# Altium footprint library SOT23-5-MIC5504.PcbLib: 1 footprints
Each footprint in its own frame and in the unit in brackets; x right, y up, seen from the top. Pads: shape width x height; smd on the part's side, far side on the other; paste and mask are expansions set on the pad; w line width, h text height; cw(c..) or ccw(c..) is an arc to the next point about the centre after c.
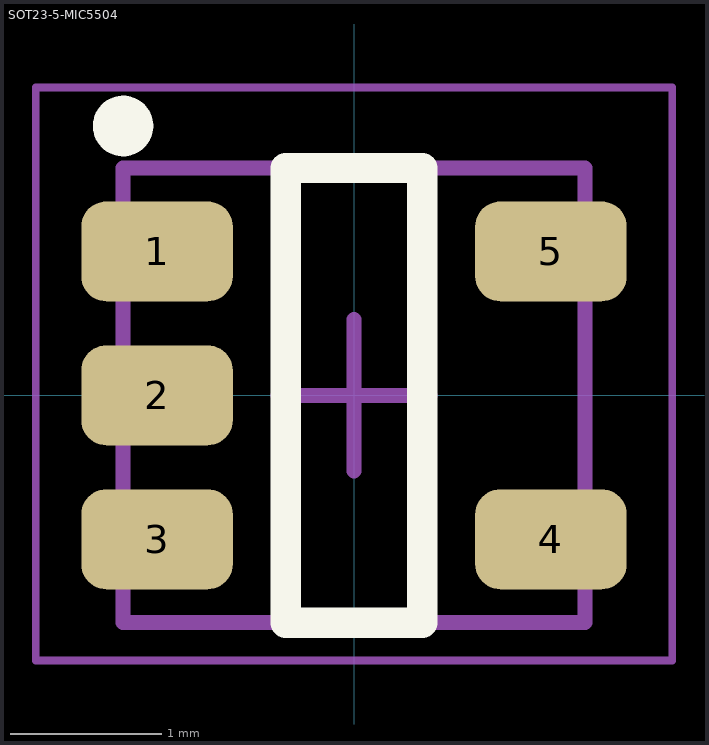
[diagram p0: the footprint, top view; thin cyan lines are the x and y axes]

## SOT23-5-MIC5504 [mm] "SOT23, 5-Leads, Body 2,90x2,80mm, Pitch 0,95mm, IPC Medium Density"
height 1.45
pads (5):
  rrect50% 1x0.66 smd: 1(-1.3,0.95) 2(-1.3,0) 3(-1.3,-0.95) 4(1.3,-0.95) 5(1.3,0.95)
Top Overlay:
  circle w0.2: c-1.524,1.778 r0.1
  lines w0.2: -0.45,-1.5 0.45,-1.5 0.45,1.5 -0.45,1.5 -0.45,-1.5
Top Assembly:
  lines w0.1: -1.524,-1.5 -1.524,1.5 1.524,1.5 1.524,-1.5 -1.524,-1.5
Top Courtyard:
  lines w0.05: -2.1,-1.75 -2.1,2.032 -1.05,2.032 1.05,2.032 2.1,2.032 2.1,-1.75 -2.1,-1.75
  lines w0.1: -0.5,0 0.5,0 ; 0,-0.5 0,0.5
3D body "SOT23-5-MIC5504.step": height 1.45, standoff 0, extent -1.5,-1.5 1.5,1.5